# EAGLE library part S7B-XH-A (library jst-xh)
Wire-to-Board 2.5mm pitch side mount connector Source: http://www.jst-mfg.com/product/pdf/jpn/XH.pdf http://www.jst-mfg.com/product/detail.php?series=277
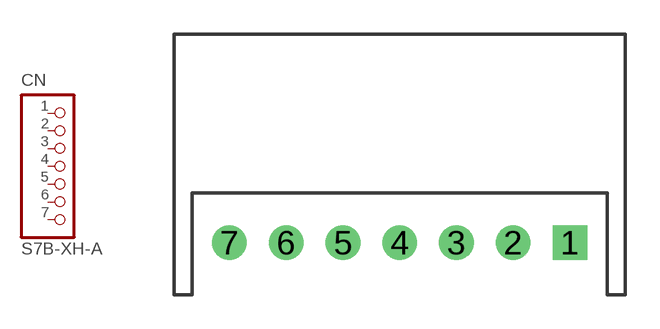
[diagram p13: symbol with the pads of S7B-XH-A; footprint S7B-XH-A]

Designator prefix CN

## S7B-XH-A  [S7B-XH-A]
1  1  pas
2  2  pas
3  3  pas
4  4  pas
5  5  pas
6  6  pas
7  7  pas

## Footprint S7B-XH-A (pad centres in mm)
drill 1.016 square: 1 7.5,0
drill 1.016: 2 5,0; 3 2.5,0; 4 0,0; 5 -2.5,0; 6 -5,0; 7 -7.5,0